# EAGLE library part PE4259 (library df4iah_rf)
pSemi PE4259 SPDT High Power UltraCMOS® 10 MHz–3.0 GHz RF Switch Low insertion loss: 0.35 dB @ 1000 MHz, 0.5 dB @ 2000 MHz Isolation of 30 dB @ 1000 MHz Typical input 1 dB compression point of +33.5 dBm 6-lead SC-70 package Reference: http://www.psemi.com/products/rf-switches/pe4259
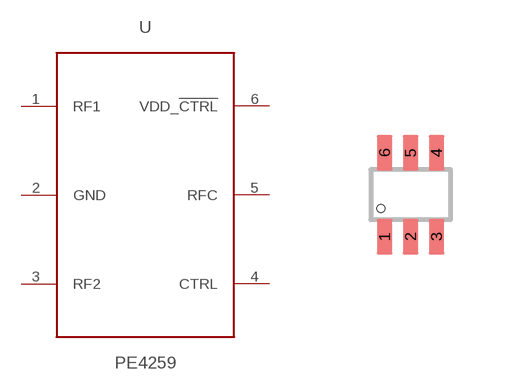
[diagram p2: symbol with the pads of SC-70_6-LEAD_2X1MM25_0P65; footprint SC-70_6-LEAD_2X1MM25_0P65]

Designator prefix U

## PE4259  [SC-70_6-LEAD_2X1MM25_0P65]
1  RF1  pas
2  GND  pwr
3  RF2  pas
4  CTRL  in
5  RFC  pas
6  VDD_!CTRL  pas

## Footprint SC-70_6-LEAD_2X1MM25_0P65 (pad centres in mm)
6-lead SC-70 - 2.05 x 1.25 mm - 0.65P
smd 0.4 x 0.9: 1 -0.65,-1.05; 2 0,-1.05; 3 0.65,-1.05; 4 0.65,1.05; 5 0,1.05; 6 -0.65,1.05